# Altium schematic symbol library lab10.SchLib: 4 symbols
Pins are listed as number, name and electrical type; pins without a type are passive.

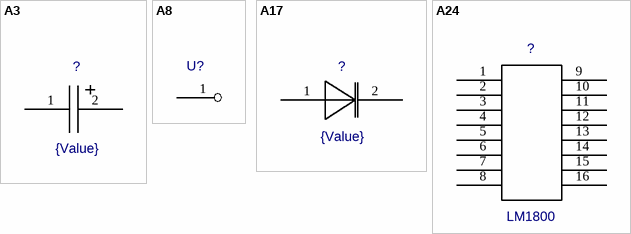
[diagram p0: symbols A3 to A24]

## A3
designator ?  value {Value}  (hidden comment: *)
footprint A58
pins: 1, 2

## A8
designator U?  (value not drawn)
Value: *
footprint CONTACT
pins: 1

## A17
designator ?  value {Value}  (hidden comment: *)
footprint A46_KV109V(Primary)
pins: 1 0, 2 0

## A24
designator ?, comment LM1800
Value: *
footprint A39
pins: 1, 2, 3, 4, 5, 6, 7, 8, 9, 10, 11, 12, 13, 14, 15, 16